# EAGLE library part TPS22997RYZR (library TPS22997RYZR)
TPS22997 5.5-V, 10-A, 4-m On-Resistance Load Switch with Adjustable Rise Time Source: Datasheet <https://www.ti.com/lit/gpn/tps22997?HQS=ti-null-null-sf-df-pf-sep-wwe&DCM=yes?hkey=EF798316E3902B6ED9A73243A3159BB0>
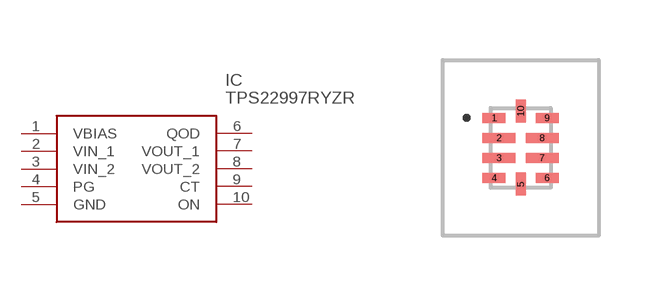
[diagram p0: symbol with the pads of TPS22997RYZR; footprint TPS22997RYZR]

Designator prefix IC

## TPS22997RYZR (Arrow_Part_Number: TPS22997RYZR; Arrow_Price-Stock: https://www.arrow.com/en/products/tps22997ryzr/texas-instruments?utm_currency=USD&region=nac; Description: TPS22997 5.5-V, 10-A, 4-m On-Resistance Load Switch with Adjustable Rise Time; Height: 0.8mm; Manufacturer_Name: Texas Instruments; Manufacturer_Part_Number: TPS22997RYZR; Mouser_Part_Number: 595-TPS22997RYZR; Mouser_Price-Stock: https://www.mouser.co.uk/ProductDetail/Texas-Instruments/TPS22997RYZR?qs=amGC7iS6iy986RqKkXLlig%3D%3D)  [TPS22997RYZR]
1  VBIAS
2  VIN_1
3  VIN_2
4  PG
5  GND
6  QOD
7  VOUT_1
8  VOUT_2
9  CT
10  ON

## Footprint TPS22997RYZR (pad centres in mm)
TPS22997RYZR-1
smd 0.575 x 0.25: 1 -0.663,0.75; 4 -0.663,-0.75; 6 0.663,-0.75; 9 0.663,0.75
smd 0.825 x 0.25: 2 -0.538,0.25; 3 -0.538,-0.25; 7 0.538,-0.25; 8 0.538,0.25
smd 0.25 x 0.575: 5 0,-0.912; 10 0,0.913